# Altium schematic symbol library AP2151DWG-7.SchLib: 1 symbol
Pins are listed as number, name and electrical type; pins without a type are passive.

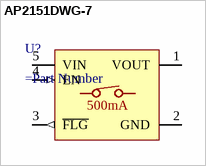
[diagram p0: symbol AP2151DWG-7]

## AP2151DWG-7
designator U?
=Description
pins: 1 VOUT (power), 2 GND (power), 3 ~{FLG} (out), 4 EN (in), 5 VIN (power)
text: 500mA